# Altium schematic symbol library StairMastersPDB.SCHLIB: 25 symbols
Pins are listed as number, name and electrical type; pins without a type are passive.

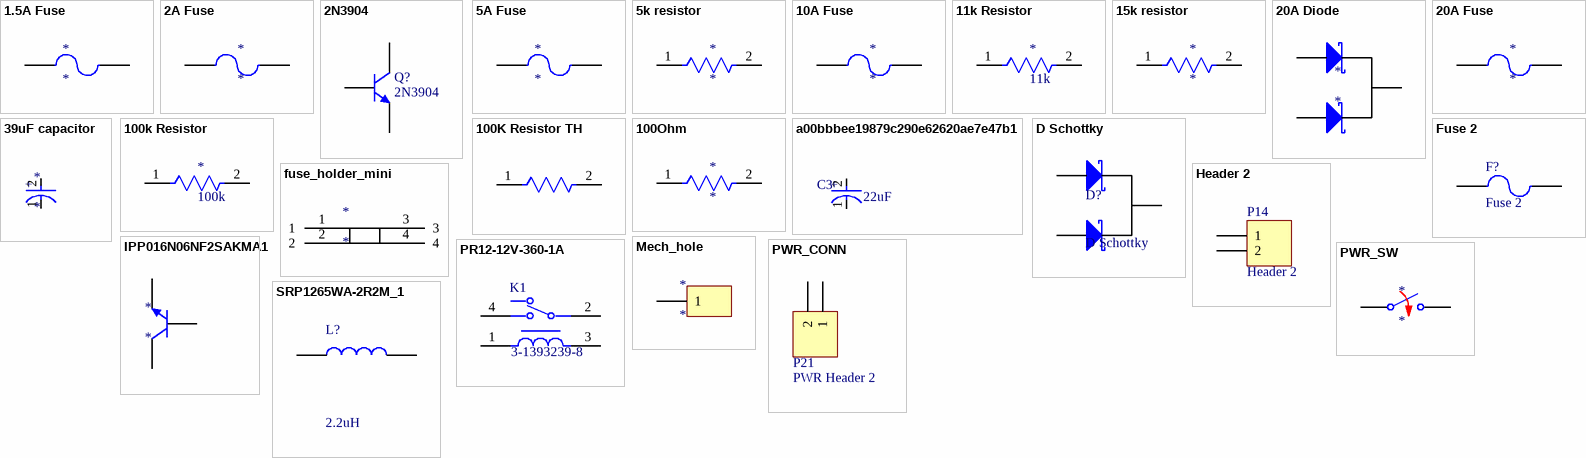
[diagram p0: symbols 1.5A Fuse to SRP1265WA-2R2M_1]

## 1.5A Fuse
designator *
Fuse Subminiature Very Fast Acting 1.5A 125V Axial 2.8 X 7.11mm Ceramic T/R; Manufacturer: Littelfuse; Manufacturer Part Number: 025101.5MRT1L; Circuit Protection Type: Electric Fuse; Fuse Class: Supplemental; Fuse Size: PICO; Joule-integral-Nom: 0.587J; Pre-arcing Rating: 0.587A2/s; Rated Breaking Capacity: 50A; Body Length or Diameter: 2.8mm; Reference Standard: UL; Supplier: Future Electronics; Supplier Part Number: 7443534; RoHS: Yes; Category: Fuses; Stock: 160; Pricing: 1=0.69000, 10=0.59500, 40=0.54000, 150=0.48500, 500=0.44000 (USD); Mounting Technology: Through Hole; Terminal Finish: Tin; Min Operating Temperature: -55°C; Max Operating Temperature: 125°C; JESD-609 Code: e3; Blow Characteristic: VERY FAST; Packaging: Tape and Reel; Current Rating: 1.5A; Voltage Rating: 125V; Voltage Rating (AC): 125V; Voltage Rating (DC): 125V; Termination: Pin Wire; Body Height: 7.11mm; RoHS Compliant: Yes; Reach SVHC Compliant: No; ComponentLink1URL: https://datasheet.ciiva.com:443/pdfs/VipMasterIC/IC/LFSI/LFSI-S-A0001360260/LFSI-S-A0001360260-1.pdf?src-supplier=IHS+Markit; ComponentLink1Description: https://datasheet.ciiva.com:443/pdfs/VipMasterIC/IC/LFSI/LFSI-S-A0001360260/LFSI-S-A0001360260-1.pdf?src-supplier=IHS+Markit; ComponentLink2URL: https://datasheet.ciiva.com/28468/88912-28468542.pdf?src-supplier=Element14; ComponentLink2Description: https://datasheet.ciiva.com/28468/88912-28468542.pdf?src-supplier=Element14; ComponentLink3URL: https://datasheet.ciiva.com/301/littelfuse-fuse-251-253-datasheet-pdf-301635.pdf?src-supplier=Digi-Key; ComponentLink3Description: https://datasheet.ciiva.com/301/littelfuse-fuse-251-253-datasheet-pdf-301635.pdf?src-supplier=Digi-Key; ComponentLink4URL: https://datasheet.ciiva.com/301/littelfuse-fuse-251-253-datasheet-pdf-301634.pdf?src-supplier=Digi-Key; ComponentLink4Description: https://datasheet.ciiva.com/301/littelfuse-fuse-251-253-datasheet-pdf-301634.pdf?src-supplier=Digi-Key
footprint FP-MBB0207-MFG
footprint Model Name (Model Description)
pins: 1, 2

## 2A Fuse
designator *
Fuse Subminiature Very Fast Acting 2A 125V Axial 2.8 X 7.11mm Ceramic T/R; Manufacturer: Littelfuse; Manufacturer Part Number: 0251002.MRT1L; Circuit Protection Type: Electric Fuse; Fuse Class: Supplemental; Fuse Size: PICO; Joule-integral-Nom: 0.405J; Pre-arcing Rating: 0.405A2/s; Rated Breaking Capacity: 50A; Body Length or Diameter: 2.8mm; Reference Standard: UL; Supplier: Future Electronics; Supplier Part Number: 7081334; RoHS: Yes; Category: Fuses; Stock: 107000; Pricing: 1000=0.40000, 3000=0.39000, 5000=0.38500, 15000=0.37500, 25000=0.36500 (USD); Mounting Technology: Through Hole; Terminal Finish: Tin; Min Operating Temperature: -55°C; Max Operating Temperature: 125°C; JESD-609 Code: e3; Blow Characteristic: VERY FAST; Packaging: Tape and Reel; Current Rating: 2A; Voltage Rating: 125V; Voltage Rating (AC): 125V; Voltage Rating (DC): 125V; Termination: Pin Wire; Body Height: 7.11mm; RoHS Compliant: Yes; Reach SVHC Compliant: No; ComponentLink1URL: https://datasheet.ciiva.com:443/pdfs/VipMasterIC/IC/LFSI/LFSI-S-A0001360260/LFSI-S-A0001360260-1.pdf?src-supplier=IHS+Markit; ComponentLink1Description: https://datasheet.ciiva.com:443/pdfs/VipMasterIC/IC/LFSI/LFSI-S-A0001360260/LFSI-S-A0001360260-1.pdf?src-supplier=IHS+Markit; ComponentLink2URL: https://datasheet.ciiva.com/299/littelfuse-fuse-251-253-datasheet-pdf-299253.pdf?src-supplier=Digi-Key; ComponentLink2Description: https://datasheet.ciiva.com/299/littelfuse-fuse-251-253-datasheet-pdf-299253.pdf?src-supplier=Digi-Key; ComponentLink3URL: https://datasheet.ciiva.com/299/littelfuse-fuse-251-253-datasheet-pdf-299254.pdf?src-supplier=Digi-Key; ComponentLink3Description: https://datasheet.ciiva.com/299/littelfuse-fuse-251-253-datasheet-pdf-299254.pdf?src-supplier=Digi-Key; ComponentLink4URL: https://datasheet.ciiva.com/22658/88912-22658587.pdf?src-supplier=Element14; ComponentLink4Description: https://datasheet.ciiva.com/22658/88912-22658587.pdf?src-supplier=Element14; ComponentLink5URL: https://datasheet.ciiva.com/28363/88912-28363277.pdf?src-supplier=Element14; ComponentLink5Description: https://datasheet.ciiva.com/28363/88912-28363277.pdf?src-supplier=Element14; ComponentLink6URL: https://datasheet.ciiva.com/1548/251-253-1548974.pdf?src-supplier=Element14; ComponentLink6Description: https://datasheet.ciiva.com/1548/251-253-1548974.pdf?src-supplier=Element14; ComponentLink7URL: https://datasheet.ciiva.com/16328/251-253-16328168.pdf?src-supplier=Future+Electronics; ComponentLink7Description: https://datasheet.ciiva.com/16328/251-253-16328168.pdf?src-supplier=Future+Electronics; ComponentLink8URL: https://datasheet.ciiva.com/15187/getdatasheetpartid-116773-15187142.pdf?src-supplier=Verical; ComponentLink8Description: https://datasheet.ciiva.com/15187/getdatasheetpartid-116773-15187142.pdf?src-supplier=Verical; ComponentLink9URL: https://datasheet.ciiva.com/1681/88912-1681245.pdf?src-supplier=Farnell; ComponentLink9Description: https://datasheet.ciiva.com/1681/88912-1681245.pdf?src-supplier=Farnell
footprint FP-MBB0207-MFG
pins: 1, 2

## 2N3904
designator Q?
NPN General Purpose Amplifier; Published: 8-Jun-2000; LatestRevisionDate: 15-Jan-2003; LatestRevisionNote: PCB Footprint 'BCY-W3/D4.7' replaced; DatasheetVersion: 1997; PackageVersion: Sep-1998; PackageReference: TO-92A; Publisher: Altium Limited; PackageDescription: TO, Flat Index; 3 In-Line, Axial Leads; Body Dia. 4.5mm; Leads 0.51 x 0.48 mm (max); ComponentLink1Description: Manufacturer Link; ComponentLink1URL: http://www.fairchildsemi.com/; ComponentLink2Description: Datasheet; ComponentLink2URL: http://www.fairchildsemi.com/ds/2N%2F2N3904.pdf
footprint TO-92A (TO, Flat Index; 3 In-Line, Axial Leads; Body Dia. 4.5mm; Leads 0.51 x 0.48 mm (max))
simulation model 2N3904 (NPN)
signal-integrity model 2N3904
pins: 1 E, 2 B, 3 C

## 5A Fuse
designator *
Electric Fuse, Very Fast Blow, 5A, 125VAC, 125VDC, 50A (IR), Through Hole; Manufacturer: Littelfuse; Manufacturer Part Number: 0251005.NAT1L; Joule-integral-Nom: 4.14J; Voltage Rating (AC): 125V; Body Height: 7.11mm; Body Length or Diameter: 2.8mm; Reference Standard: UL; Supplier: Newark; Supplier Part Number: 34AK3121; RoHS: Yes; Category: Fuses; Stock: 5000; Pricing: 10=0.72600, 25=0.64500, 50=0.56600, 100=0.48000, 500=0.40600, 1000=0.35800, 2500=0.32700 (USD); Mounting Technology: Through Hole; Terminal Finish: Tin; Min Operating Temperature: -55°C; Max Operating Temperature: 125°C; JESD-609 Code: e3; Blow Characteristic: VERY FAST; Circuit Protection Type: Electric Fuse; Packaging: Ammo Pack; Rated Breaking Capacity: 50A; Current Rating: 5A; Voltage Rating (DC): 125V; Termination: Pin Wire; Reach SVHC Compliant: Yes; RoHS Compliant: Yes; ComponentLink1URL: https://datasheet.ciiva.com:443/pdfs/VipMasterIC/IC/LFSI/LFSI-S-A0001360260/LFSI-S-A0001360260-1.pdf?src-supplier=IHS+Markit; ComponentLink1Description: https://datasheet.ciiva.com:443/pdfs/VipMasterIC/IC/LFSI/LFSI-S-A0001360260/LFSI-S-A0001360260-1.pdf?src-supplier=IHS+Markit; ComponentLink2URL: https://datasheet.ciiva.com/303/littelfuse-fuse-251-253-datasheet-pdf-303152.pdf?src-supplier=Digi-Key; ComponentLink2Description: https://datasheet.ciiva.com/303/littelfuse-fuse-251-253-datasheet-pdf-303152.pdf?src-supplier=Digi-Key; ComponentLink3URL: https://datasheet.ciiva.com/4492/251-253-45293-4492876.pdf?src-supplier=Mouser; ComponentLink3Description: https://datasheet.ciiva.com/4492/251-253-45293-4492876.pdf?src-supplier=Mouser; ComponentLink4URL: https://datasheet.ciiva.com/18670/littelfuse-fuse-251-253-datasheet-pdf-18670742.pdf?src-supplier=Digi-Key; ComponentLink4Description: https://datasheet.ciiva.com/18670/littelfuse-fuse-251-253-datasheet-pdf-18670742.pdf?src-supplier=Digi-Key; ComponentLink5URL: https://datasheet.ciiva.com/18670/littelfuse-fuse-251-253-datasheet-pdf-18670743.pdf?src-supplier=Digi-Key; ComponentLink5Description: https://datasheet.ciiva.com/18670/littelfuse-fuse-251-253-datasheet-pdf-18670743.pdf?src-supplier=Digi-Key
footprint FP-MBB0207-MFG
pins: 1, 2

## 5k resistor
designator *
Fixed Resistor, Wire Wound, 5W, 5000ohm, 158.1139V, 1% +/-Tol, 90ppm/Cel, Through Hole Mount; Manufacturer: Ohmite; Manufacturer Part Number: WNE5K0FET; Value: 5kR; Temperature Coefficient: 20ppm/°C; Rated Temperature: 70°C; Additional Feature: Non Inductive; Supplier: Newark; Supplier Part Number: 13T1851; RoHS: Yes; Category: Through-Hole Resistors; Stock: 40; Pricing: 1=2.67000, 10=2.37000, 25=2.18000, 50=2.00000, 100=1.81000, 250=1.55000 (USD); Mounting Technology: Through Hole; Pins: 2; Package Shape: Tubular; Terminal Finish: Tin; Min Operating Temperature: -55°C; Max Operating Temperature: 150°C; Tolerance: 1%; Resistor Type: FIXED RESISTOR; Power: 5W; Technology: WIRE WOUND; Termination: Wire; JESD-609 Code: e3; Packaging: Tape and Reel; Reach SVHC Compliant: Yes; RoHS Compliant: Yes; ComponentLink1URL: https://datasheet.ciiva.com:443/pdfs/VipMasterIC/IC/OMIT/OMIT-S-A0008955131/OMIT-S-A0008955131-1.pdf?src-supplier=IHS+Markit; ComponentLink1Description: https://datasheet.ciiva.com:443/pdfs/VipMasterIC/IC/OMIT/OMIT-S-A0008955131/OMIT-S-A0008955131-1.pdf?src-supplier=IHS+Markit; ComponentLink2URL: https://datasheet.ciiva.com/5635/res-wh-wn-5635688.pdf?src-supplier=Mouser; ComponentLink2Description: https://datasheet.ciiva.com/5635/res-wh-wn-5635688.pdf?src-supplier=Mouser; ComponentLink3URL: https://datasheet.ciiva.com/8080/whm-wnm-8080264.pdf?src-supplier=Element14; ComponentLink3Description: https://datasheet.ciiva.com/8080/whm-wnm-8080264.pdf?src-supplier=Element14; ComponentLink4URL: https://datasheet.ciiva.com/46640/70370918-46640877.pdf?src-supplier=Allied+Electronics; ComponentLink4Description: https://datasheet.ciiva.com/46640/70370918-46640877.pdf?src-supplier=Allied+Electronics
footprint FP-MBB0207-MFG
pins: 1, 2

## 10A Fuse
designator *
Fuse Subminiature Very Fast Acting 10A 125V Axial 2.8 X 7.11mm Ceramic Ammo Pack; Manufacturer: Littelfuse; Manufacturer Part Number: 0251010.HAT1L; Circuit Protection Type: Electric Fuse; Joule-integral-Nom: 25.5J; Rated Breaking Capacity: 50A; Body Length or Diameter: 2.8mm; Reference Standard: UL; Supplier: Future Electronics; Supplier Part Number: 9469693; RoHS: Yes; Category: Fuses; Stock: 1700; Pricing: 100=0.53000, 400=0.51000, 1500=0.49000, 4000=0.47500, 10000=0.45000 (USD); Mounting Technology: Through Hole; Terminal Finish: Tin; Min Operating Temperature: -55°C; Max Operating Temperature: 125°C; JESD-609 Code: e3; Blow Characteristic: VERY FAST; Packaging: Ammo Pack; Current Rating: 10A; Voltage Rating (AC): 125V; Voltage Rating (DC): 125V; Termination: Pin Wire; Body Height: 7.11mm; RoHS Compliant: Yes; Reach SVHC Compliant: No; ComponentLink1URL: https://datasheet.ciiva.com:443/pdfs/VipMasterIC/IC/LFSI/LFSI-S-A0001360260/LFSI-S-A0001360260-1.pdf?src-supplier=IHS+Markit; ComponentLink1Description: https://datasheet.ciiva.com:443/pdfs/VipMasterIC/IC/LFSI/LFSI-S-A0001360260/LFSI-S-A0001360260-1.pdf?src-supplier=IHS+Markit; ComponentLink2URL: https://datasheet.ciiva.com/303/littelfuse-fuse-251-253-datasheet-pdf-303888.pdf?src-supplier=Digi-Key; ComponentLink2Description: https://datasheet.ciiva.com/303/littelfuse-fuse-251-253-datasheet-pdf-303888.pdf?src-supplier=Digi-Key; ComponentLink3URL: https://datasheet.ciiva.com/29619/littelfuse-fuse-251-253-datasheet-pdf-29619034.pdf?src-supplier=Digi-Key; ComponentLink3Description: https://datasheet.ciiva.com/29619/littelfuse-fuse-251-253-datasheet-pdf-29619034.pdf?src-supplier=Digi-Key; ComponentLink4URL: https://datasheet.ciiva.com/29619/littelfuse-fuse-251-253-datasheet-pdf-29619033.pdf?src-supplier=Digi-Key; ComponentLink4Description: https://datasheet.ciiva.com/29619/littelfuse-fuse-251-253-datasheet-pdf-29619033.pdf?src-supplier=Digi-Key
footprint FP-MBB0207-MFG
pins: 1, 2

## 11k Resistor
designator *, comment 11k
Fixed Resistor, Metal Film, 0.4W, 11000ohm, 350V, 1% +/-Tol, 50ppm/Cel, Through Hole Mount; Manufacturer: Vishay Semiconductors; Manufacturer Part Number: MBB02070C1102FC100; Power: 400mW; Rated Temperature: 70°C; Value: 11kR; Temperature Coefficient: 50ppm/°C; Additional Feature: RATED AC VOLTAGE: 350V; Lead Diameter: 0.6mm; Package Diameter: 2.5mm; Package Length: 6.5mm; Lead Length: 28mm; Reference Standard: AEC-Q200; Supplier: Mouser; Supplier Part Number: 594-MBB02070C1102FC1; RoHS: Yes; Category: Through-Hole Resistors; Stock: 999; Pricing: 1=0.40000, 10=0.30800, 50=0.30800, 100=0.13000, 500=0.09400, 1000=0.07100, 2000=0.06600, 10000=0.06600 (USD); Mounting Technology: Through Hole; Pins: 2; Terminal Finish: Nickel; Min Operating Temperature: -55°C; Max Operating Temperature: 125°C; Tolerance: 1%; Resistor Type: FIXED RESISTOR; Technology: THIN FILM; Termination: Wire; Working Voltage: 350V; JESD-609 Code: e3; Construction: Tubular; Package Style: AxialMeter; Packaging: Ammo Pack; Reach SVHC Compliant: Yes; RoHS Compliant: Yes; ComponentLink1URL: https://datasheet.ciiva.com:443/pdfs/VipMasterIC/IC/VISH/VISH-S-A0005972005/VISH-S-A0005972005-1.pdf?src-supplier=IHS+Markit; ComponentLink1Description: https://datasheet.ciiva.com:443/pdfs/VipMasterIC/IC/VISH/VISH-S-A0005972005/VISH-S-A0005972005-1.pdf?src-supplier=IHS+Markit; ComponentLink2URL: http://components.arrow.com/part/dataview/44454635S9668648N4052?src-supplier=Arrow+Electronics; ComponentLink2Description: http://components.arrow.com/part/dataview/44454635S9668648N4052?src-supplier=Arrow+Electronics; ComponentLink3URL: http://www.vishay.com/docs/28766/28766.pdf?src-supplier=Avnet; ComponentLink3Description: http://www.vishay.com/docs/28766/28766.pdf?src-supplier=Avnet
footprint FP-MBB0207-MFG
pins: 1, 2

## 15k resistor
designator *
Fixed Resistor, Metal Film, 2W, 15000ohm, 500V, 5% +/-Tol, 250ppm/Cel, Through Hole Mount; Manufacturer: Vishay BCcomponents; Manufacturer Part Number: PR02000201502JR500; Rated Temperature: 70°C; Value: 15kR; Temperature Coefficient: 250ppm/°C; Package Length: 12mm; Lead Diameter: 0.78mm; Package Diameter: 3.9mm; Reference Standard: AEC-Q200; Supplier: Mouser; Supplier Part Number: 594-5083NW15K00J; RoHS: Yes; Category: Through-Hole Resistors; Stock: 10492; Pricing: 1=0.32000, 10=0.16000, 50=0.16000, 100=0.10000, 1000=0.06500, 10000=0.05500 (USD); Mounting Technology: Through Hole; Pins: 2; Terminal Finish: Tin; Package Shape: Tubular; Min Operating Temperature: -55°C; Max Operating Temperature: 155°C; Tolerance: 5%; Resistor Type: FIXED RESISTOR; Package Style: AxialMeter; Packaging: Tape and Reel; Power: 2W; Termination: Wire; JESD-609 Code: e3; Technology: METAL FILM; Working Voltage: 500V; Construction: Tubular; Reach SVHC Compliant: Yes; RoHS Compliant: Yes; ComponentLink1URL: https://datasheet.ciiva.com:443/pdfs/VipMasterIC/IC/VISH/VISH-S-A0005972021/VISH-S-A0005972021-1.pdf?src-supplier=IHS+Markit; ComponentLink1Description: https://datasheet.ciiva.com:443/pdfs/VipMasterIC/IC/VISH/VISH-S-A0005972021/VISH-S-A0005972021-1.pdf?src-supplier=IHS+Markit; ComponentLink2URL: http://www.farnell.com/datasheets/2049118.pdf?src-supplier=Farnell; ComponentLink2Description: http://www.farnell.com/datasheets/2049118.pdf?src-supplier=Farnell; ComponentLink3URL: http://www.mouser.com/ds/2/427/pr010203-239785.pdf?src-supplier=Mouser; ComponentLink3Description: http://www.mouser.com/ds/2/427/pr010203-239785.pdf?src-supplier=Mouser; ComponentLink4URL: http://components.arrow.com/part/dataview/43690989S7009130N4052?src-supplier=Arrow+Electronics; ComponentLink4Description: http://components.arrow.com/part/dataview/43690989S7009130N4052?src-supplier=Arrow+Electronics; ComponentLink5URL: http://uk.rs-online.com/webdocs/1410/0900766b8141069f.pdf?src-supplier=Rs; ComponentLink5Description: http://uk.rs-online.com/webdocs/1410/0900766b8141069f.pdf?src-supplier=Rs; ComponentLink6URL: http://www.vishay.com/docs/28729/pr010203.pdf?src-supplier=Digi-Key; ComponentLink6Description: http://www.vishay.com/docs/28729/pr010203.pdf?src-supplier=Digi-Key; ComponentLink7URL: http://www.vishay.com/docs/28729/28729.pdf?src-supplier=Avnet; ComponentLink7Description: http://www.vishay.com/docs/28729/28729.pdf?src-supplier=Avnet; ComponentLink8URL: http://www.farnell.com/datasheets/2049118.pdf?src-supplier=Element14; ComponentLink8Description: http://www.farnell.com/datasheets/2049118.pdf?src-supplier=Element14; ComponentLink9URL: http://www.vishay.com/docs/28729/28729.pdf?src-supplier=Future+Electronics; ComponentLink9Description: http://www.vishay.com/docs/28729/28729.pdf?src-supplier=Future+Electronics
footprint FP-MBB0207-MFG
pins: 1, 2

## 20A Diode
designator *
Manufacturer: Rohm; Manufacturer Part Number: RB215T-90NZC9; Supplier: Mouser; Supplier Part Number: 755-RB215T-90NZC9; RoHS: No; Stock: 1994; Pricing: 1=3.30000, 10=2.96000, 50=2.96000, 100=2.43000, 500=2.07000, 1000=1.74000, 2000=1.61000, 5000=1.59000, 10000=1.59000 (USD); ComponentLink1URL: http://datasheet.octopart.com/RB215T-90NZC9-Rohm-datasheet-142143394.pdf?src-supplier=Rs; ComponentLink1Description: http://datasheet.octopart.com/RB215T-90NZC9-Rohm-datasheet-142143394.pdf?src-supplier=Rs
footprint FP-MBB0207-MFG
pins: 1 A, 2 K, 3 A

## 20A Fuse
designator *
Electric Fuse, Fast Blow, 20A, 1000A (IR), 3AB; Manufacturer: Littelfuse; Manufacturer Part Number: 0314020.MX52LEP; Pre-arcing Rating: 631A2/s; Rated Breaking Capacity: 1kA; Voltage Rating: 250V; Body Height: 31.75mm; Body Length or Diameter: 6.35mm; Reference Standard: UL; Supplier: Digi-Key; Supplier Part Number: 0314020.MX52LEP-ND; RoHS: Yes; Category: Fuses; Stock: 2925; Pricing: 1=1.59000, 5=1.54200, 10=1.44200, 50=1.19300, 100=0.99420, 250=0.96940, 500=0.82026, 1000=0.72083, 5000=0.64626 (USD); Terminal Finish: Nickel; Min Operating Temperature: -55°C; Max Operating Temperature: 125°C; Blow Characteristic: FAST; Circuit Protection Type: Electric Fuse; Fuse Size: 3AB; Current Rating: 20A; Termination: End Cap; Reach SVHC Compliant: Yes; RoHS Compliant: Yes; ComponentLink1URL: https://datasheet.ciiva.com:443/pdfs/VipMasterIC/IC/LFSI/LFSI-S-A0000790503/LFSI-S-A0000790503-1.pdf?src-supplier=IHS+Markit; ComponentLink1Description: https://datasheet.ciiva.com:443/pdfs/VipMasterIC/IC/LFSI/LFSI-S-A0000790503/LFSI-S-A0000790503-1.pdf?src-supplier=IHS+Markit; ComponentLink2URL: https://datasheet.ciiva.com/304/littelfuse-fuse-314p-324p-304224.pdf?src-supplier=Digi-Key; ComponentLink2Description: https://datasheet.ciiva.com/304/littelfuse-fuse-314p-324p-304224.pdf?src-supplier=Digi-Key
footprint FP-MBB0207-MFG
footprint Model Name (Model Description)
pins: 1, 2

## 39uF capacitor
designator *
Cap Aluminum 39uF 25V 20% (6.3 X 7mm) Radial 5mm 200mA 1000 hr 105C Ammo Pack; Manufacturer: Panasonic; Manufacturer Part Number: EEA-FC1E390B; Supplier: Mouser; Supplier Part Number: 667-EEA-FC1E390B; RoHS: Yes; Category: Aluminum Electrolytic Capacitors; Stock: 1295; Pricing: 1=0.47000, 10=0.32500, 50=0.22800, 100=0.19500, 1000=0.14700, 10000=0.11000 (USD); ComponentLink1URL: https://datasheet.ciiva.com/24234/aba0000ce22-68457-24234377.pdf?src-supplier=Mouser; ComponentLink1Description: https://datasheet.ciiva.com/24234/aba0000ce22-68457-24234377.pdf?src-supplier=Mouser; ComponentLink2URL: https://datasheet.ciiva.com/11680/aba0000ce22-11680271.pdf?src-supplier=Avnet; ComponentLink2Description: https://datasheet.ciiva.com/11680/aba0000ce22-11680271.pdf?src-supplier=Avnet
footprint FP-RAD-TH-D_5_0_5-L_11_1-MFG
pins: 1 C, 2 A
text: +

## 100k Resistor
designator *, comment 100k
Fixed Resistor, Metal Film, 2W, 100000ohm, 500V, 5% +/-Tol, 250ppm/Cel, Through Hole Mount; Manufacturer: Vishay BCcomponents; Manufacturer Part Number: PR02000201003JA100; Rated Temperature: 70°C; Value: 100kR; Temperature Coefficient: 250ppm/°C; Package Length: 12mm; Lead Diameter: 0.78mm; Package Diameter: 3.9mm; Reference Standard: AEC-Q200; Supplier: Mouser; Supplier Part Number: 594-5083NW100K0JA100; RoHS: Yes; Category: Through-Hole Resistors; Stock: 11142; Pricing: 1=0.40000, 10=0.37000, 50=0.37000, 100=0.20900, 1000=0.08800, 10000=0.08800 (USD); Mounting Technology: Through Hole; Pins: 2; Terminal Finish: Tin; Package Shape: Tubular; Min Operating Temperature: -55°C; Max Operating Temperature: 155°C; Tolerance: 5%; Resistor Type: FIXED RESISTOR; Power: 2W; Technology: METAL FILM; Termination: Wire; Working Voltage: 500V; JESD-609 Code: e3; Construction: Tubular; Package Style: AxialMeter; Packaging: Ammo Pack; RoHS Compliant: Yes; Reach SVHC Compliant: Yes; ComponentLink1URL: https://datasheet.ciiva.com:443/pdfs/VipMasterIC/IC/VISH/VISH-S-A0005972021/VISH-S-A0005972021-1.pdf?src-supplier=IHS+Markit; ComponentLink1Description: https://datasheet.ciiva.com:443/pdfs/VipMasterIC/IC/VISH/VISH-S-A0005972021/VISH-S-A0005972021-1.pdf?src-supplier=IHS+Markit; ComponentLink2URL: https://datasheet.ciiva.com/11824/0900766b80d9a182-11824802.pdf?src-supplier=Rs; ComponentLink2Description: https://datasheet.ciiva.com/11824/0900766b80d9a182-11824802.pdf?src-supplier=Rs; ComponentLink3URL: https://datasheet.ciiva.com/48426/pr01-02-03-eng-tds-48426207.pdf?src-supplier=Distrelec; ComponentLink3Description: https://datasheet.ciiva.com/48426/pr01-02-03-eng-tds-48426207.pdf?src-supplier=Distrelec
footprint FP-MBB0207-MFG (Footprint not found)
pins: 1, 2

## 100K Resistor TH
designator ?
Manufacturer: Vishay BCcomponents; Manufacturer Part Number: PR02000201003JA100; Voltage Rating: 300V; Max Power Dissipation: 600mW; Tolerance: 1%; Temperature Coefficient: 50ppm/°C; Rated Temperature: 70°C; Working Voltage: 500V; Package Length: 12mm; Lead Diameter: 0.78mm; Package Diameter: 3.9mm; Reference Standard: AEC-Q200; Radiation Hardening: No; Case/Package: Conformal; Termination: Axial; Military Standard: Not; Length: 6.5mm; Voltage Rating (DC): 300V; RoHS Compliant: Yes; Number of Terminations: 2; Packaging: Tape and Reel; Features: Automotive AEC-Q200; Min Operating Temperature: -55°C; Power Rating: 600mW; Lead Free: Lead Free; Resistor Type: Metal Film; Construction: Cylindrical; Series: MBB 0207 - Professional; Max Operating Temperature: 155°C; Diameter: 2.5mm; Resistance Tolerance: 1%; Contact Plating: Tin; Technology: THIN FILM; Supplier: Mouser; Supplier Part Number: 594-5083NW100K0JA100; RoHS: Yes; Category: Through-Hole Resistors; Stock: 11142; Pricing: 1=0.40000, 10=0.37000, 50=0.37000, 100=0.20900, 1000=0.08800, 10000=0.08800 (USD); Mounting Technology: Through Hole; Pins: 2; Terminal Finish: Tin; Package Shape: Tubular; JESD-609 Code: e3; Package Style: AxialMeter; Reach SVHC Compliant: Yes; ComponentLink1URL: https://datasheet.ciiva.com:443/pdfs/VipMasterIC/IC/VISH/VISH-S-A0005972021/VISH-S-A0005972021-1.pdf?src-supplier=IHS+Markit; ComponentLink1Description: https://datasheet.ciiva.com:443/pdfs/VipMasterIC/IC/VISH/VISH-S-A0005972021/VISH-S-A0005972021-1.pdf?src-supplier=IHS+Markit; ComponentLink2URL: https://datasheet.ciiva.com/11824/0900766b80d9a182-11824802.pdf?src-supplier=Rs; ComponentLink2Description: https://datasheet.ciiva.com/11824/0900766b80d9a182-11824802.pdf?src-supplier=Rs; ComponentLink3URL: https://datasheet.ciiva.com/48426/pr01-02-03-eng-tds-48426207.pdf?src-supplier=Distrelec; ComponentLink3Description: https://datasheet.ciiva.com/48426/pr01-02-03-eng-tds-48426207.pdf?src-supplier=Distrelec
footprint FP-MBB0207-MFG
footprint Model Name (Footprint not found)
pins: 1, 2

## 100Ohm
designator *
Fixed Resistor, Thin Film, 0.6W, 100ohm, 350V, 1% +/-Tol, 50ppm/Cel, Through Hole Mount; Manufacturer: Vishay BCcomponents; Manufacturer Part Number: MRS25000C1000FRP00; Power: 600mW; Rated Temperature: 70°C; Value: 100R; Temperature Coefficient: 50ppm/°C; Additional Feature: RATED AC VOLTAGE: 350V; Package Length: 6.5mm; Lead Diameter: 0.6mm; Lead Length: 28mm; Package Diameter: 2.5mm; Supplier: Mouser; Supplier Part Number: 594-MRS25000C1000FRP; RoHS: Yes; Category: Through-Hole Resistors; Stock: 15453; Pricing: 1=0.28000, 10=0.24200, 50=0.24200, 100=0.09500, 500=0.05800, 1000=0.04000, 2500=0.03700, 5000=0.03300, 10000=0.03300 (USD); Mounting Technology: Through Hole; Pins: 2; Terminal Finish: Tin; Min Operating Temperature: -55°C; Max Operating Temperature: 155°C; Tolerance: 1%; JESD-609 Code: e3; Resistor Type: FIXED RESISTOR; Packaging: Tape and Reel; Technology: THIN FILM; Termination: Wire; Working Voltage: 350V; Construction: Tubular; Package Style: AxialMeter; Reach SVHC Compliant: Yes; RoHS Compliant: Yes; ComponentLink1URL: https://datasheet.ciiva.com:443/pdfs/VipMasterIC/IC/VISH/VISH-S-A0002281164/VISH-S-A0002281164-1.pdf?src-supplier=IHS+Markit; ComponentLink1Description: https://datasheet.ciiva.com:443/pdfs/VipMasterIC/IC/VISH/VISH-S-A0002281164/VISH-S-A0002281164-1.pdf?src-supplier=IHS+Markit; ComponentLink2URL: https://datasheet.ciiva.com/2710/mrs16m25-2710838.pdf?src-supplier=Digi-Key; ComponentLink2Description: https://datasheet.ciiva.com/2710/mrs16m25-2710838.pdf?src-supplier=Digi-Key; ComponentLink3URL: https://datasheet.ciiva.com/2710/mrs16m25-2710839.pdf?src-supplier=Digi-Key; ComponentLink3Description: https://datasheet.ciiva.com/2710/mrs16m25-2710839.pdf?src-supplier=Digi-Key; ComponentLink4URL: https://datasheet.ciiva.com/8084/mrs16m25-8084175.pdf?src-supplier=Avnet; ComponentLink4Description: https://datasheet.ciiva.com/8084/mrs16m25-8084175.pdf?src-supplier=Avnet; ComponentLink5URL: https://datasheet.ciiva.com/22869/70121964-22869256.pdf?src-supplier=Allied+Electronics; ComponentLink5Description: https://datasheet.ciiva.com/22869/70121964-22869256.pdf?src-supplier=Allied+Electronics; ComponentLink6URL: https://datasheet.ciiva.com/16776/70121964-16776199.pdf?src-supplier=Allied+Electronics; ComponentLink6Description: https://datasheet.ciiva.com/16776/70121964-16776199.pdf?src-supplier=Allied+Electronics; ComponentLink7URL: https://datasheet.ciiva.com/7836/mrs16m25-7836232.pdf?src-supplier=Element14; ComponentLink7Description: https://datasheet.ciiva.com/7836/mrs16m25-7836232.pdf?src-supplier=Element14
footprint FP-MBB0207-MFG
pins: 1, 2

## a00bbbee19879c290e62620ae7e47b1
designator C3, comment 22uF
Aluminum Electrolytic Capacitors (Radial Lead Type) AEC-Q200 Qualified 22uF ±20% 50V; Ripple Current: 155mA; Polarity: Polar; ESR (Equivalent Series Resistance): 1.3R; Life (Hours): 1000Hour; Leakage Current: 3uA; Lead Diameter: 0.5mm; Termination: Radial; Radiation Hardening: No; RoHS Compliant: Yes; Case/Package: Radial; Height: 11mm; Package Quantity: 2000; Min Operating Temperature: -55°C; Length: 11mm; Contact Plating: Tin; Series: FC; Voltage Rating: 50V; Diameter: 5mm; Capacitance: 22uF; Features: General Purpose; Max Operating Temperature: 105°C; Tolerance: 20%; Voltage Rating (DC): 50V; Mount: Through Hole; Impedance: 1.3R; Lead Pitch: 0.197inch; Packaging: Tape and Reel; Height - Seated (Max): 0.472inch
footprint FP-RAD-TH-D_5_0_5-L_11_1-MFG
pins: 1 C, 2 A
text: +

## D Schottky
designator D?
Schottky Diode; Published: 8-Jun-2000; LatestRevisionDate: 17-Jul-2002; LatestRevisionNote: Re-released for DXP Platform.; PackageReference: SMB; Publisher: Altium Limited; PackageDescription: DO-214-AA/SMB; 2 C-Bend Leads; Body 5.3 x 3.6 mm, inc. leads (LxW); Code_JEDEC: DO-214-AA
footprint SMB (DO-214-AA/SMB; 2 C-Bend Leads; Body 5.3 x 3.6 mm, inc. leads (LxW))
simulation model SKYDIODE (Diode)
signal-integrity model D Schottky
pins: 1 A, 2 K, 3 A

## Fuse 2
designator F?
Fuse; Published: 8-Jun-2000; LatestRevisionDate: 17-Jul-2002; LatestRevisionNote: Re-released for DXP Platform.; PackageReference: PIN-W2/E2.8; Publisher: Altium Limited; PackageDescription: Thru-Hole; 2 Leads
footprint PIN-W2/E2.8 (Thru-Hole; 2 Leads)
simulation model FUSE (Spice Subcircuit)
footprint Model Name (Footprint not found)
footprint Model Name (Footprint not found)
pins: 1, 2

## fuse_holder_mini
designator *
Fuses/Accessories; Manufacturer: Keystone Electronics; Manufacturer Part Number: 3588TR; Supplier: Future Electronics; Supplier Part Number: 1163595; RoHS: No; Category: Fuse Holders; Stock: 1000; Pricing: 1=2.08000, 5=1.94000, 30=1.79000, 100=1.68000, 250=1.60000 (USD); ComponentLink1URL: https://datasheet.ciiva.com:443/pdfs/VipMasterIC/IC/KEYC/KEYC-S-A0001396802/KEYC-S-A0001396802-1.pdf?src-supplier=IHS+Markit; ComponentLink1Description: https://datasheet.ciiva.com:443/pdfs/VipMasterIC/IC/KEYC/KEYC-S-A0001396802/KEYC-S-A0001396802-1.pdf?src-supplier=IHS+Markit; ComponentLink2URL: https://datasheet.ciiva.com/16320/m60-2p41-16320515.pdf?src-supplier=Future+Electronics; ComponentLink2Description: https://datasheet.ciiva.com/16320/m60-2p41-16320515.pdf?src-supplier=Future+Electronics; ComponentLink3URL: https://datasheet.ciiva.com/29634/3588tr-29634141.pdf?src-supplier=Digi-Key; ComponentLink3Description: https://datasheet.ciiva.com/29634/3588tr-29634141.pdf?src-supplier=Digi-Key; ComponentLink4URL: https://datasheet.ciiva.com/1222/m60p41-1222752.pdf?src-supplier=Newark; ComponentLink4Description: https://datasheet.ciiva.com/1222/m60p41-1222752.pdf?src-supplier=Newark
pins: 1, 2, 3, 4

## Header 2
designator P14
Header, 2-Pin; LatestRevisionDate: 17-Jul-2002; LatestRevisionNote: Re-released for DXP Platform.; Publisher: Altium Limited
footprint HDR1X2 (Connector; Header; 2 Position)
signal-integrity model Connector
pins: 1, 2

## IPP016N06NF2SAKMA1
designator *
StrongIRFET Series 60 V 36 A 1.6 mOhm Single N-Channel MOSFET - TO-220-3; Manufacturer: Infineon; Manufacturer Part Number: IPP016N06NF2SAKMA1; Supplier: Newark; Supplier Part Number: 57AK3160; RoHS: No; Category: Uncategorized; Stock: 1000; Pricing: 1=4.03000, 10=3.62000, 25=3.40000, 50=3.18000, 100=2.96000, 250=2.59000, 500=2.43000 (USD)
footprint Model Name (Footprint not found)
pins: 1 E, 2 B, 3 C

## Mech_hole
designator *
footprint Mounting Hole
pins: 1

## PR12-12V-360-1A
designator K1, comment 3-1393239-8
RELAY GEN PURPOSE SPDT 10A 12V; Manufacturer: TE; Number Of Contacts: 1; Coil Resistance: 576Ω; Coil Power: 250mW; Coil Type: Non-Latching; RoHS: TRUE; Device Class L3: Power Relays; Ambient Temperature Range Low: -40°C; Device Class L2: Relays; Octopart: https://octopart.com/3-1393239-8-te+connectivity-40497687; Coil Voltage: 12V; Footprint Url: PB1688-ND; ComponentLink2URL: https://www.te.com/usa-en/product-3-1393239-8.html?te_bu=Cor&te_type=other&te_campaign=oct_glo_cor-oct-global-oth-prtnr-fy19-oct-octo-buy-bom_sma-298_2&elqCampaignId=35216; Automotive: No; ComponentLink2Description: Datasheet; Throw Configuration: SPDT; Mouser Description: General Purpose Relays RT174012; Height: 15.7mm; Digikey Description: RELAY GEN PURPOSE SPDT 10A 12V; Device Class L1: Electromechanical; Package: 3-1393239-8; Lead Free: Yes; Ambient Temperature Range High: +85°C; Manufacturer Part Number: 3-1393239-8; Category: Relay; Current Rating: 10A
footprint Model Name (Footprint not found)
footprint PR12-12V-360-1A (General Puropse Relay)
footprint PR12-12V-360-1A (General Puropse Relay)
pins: 1, 2, 3, 4

## PWR_CONN
designator P21, comment PWR Header 2
Header, 2-Pin; LatestRevisionDate: 17-Jul-2002; LatestRevisionNote: Re-released for DXP Platform.; Publisher: Altium Limited
footprint HDR1X2 (Connector; Header; 2 Position)
signal-integrity model Connector
footprint PWR_HDR1X2 (Power Connector; Header; 2 Position)
footprint PWR_HDR1X2 (Power Connector; Header; 2 Position)
pins: 1, 2

## PWR_SW
designator *
footprint PWR_HDR1X2 (Power Connector; Header; 2 Position)
pins: 1, 2

## SRP1265WA-2R2M_1
designator L?, comment 2.2uH
2.2 H Shielded Wirewound Inductor 22 A 4.2mOhm Max Nonstandard FIXED IND 2.2UH 22A 4.2 MOHM SMD 13.5x12.5x6.4; Manufacturer_Name: Bourns; Manufacturer_Part_Number: SRP1265WA-2R2M; Geometry.Height: 6.5mm; Mouser Part Number: 652-SRP1265WA-2R2M; Mouser Price/Stock: https://www.mouser.co.uk/ProductDetail/Bourns/SRP1265WA-2R2M?qs=Li%252BoUPsLEnvRcUJ534J08A%3D%3D; Datasheet Link: http://www.bourns.com/docs/Product-Datasheets/SRP1265WA.pdf
footprint SRP1265WA2R2M
pins: 1, 2